# Altium integrated library NTCLE213E3104FXB0.IntLib: 1 symbol
Pins are listed as number, name and electrical type; pins without a type are passive.

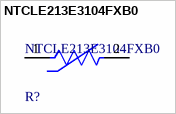
[diagram p0: symbol NTCLE213E3104FXB0]

## NTCLE213E3104FXB0
designator R?
THERM NTC 100KOHM 4190K BEAD; Resistance in Ohms @ 25°C: 100k; Supplier 1: Digi-Key; Supplier Part Number 1: BC2945-ND; ComponentLink1Description: Digikey Link; ComponentLink1URL: https://www.digikey.com/en/products/detail/vishay-beyschlag-draloric-bc-components/NTCLE213E3104FXB0/5138528; B25/85: 4190K; Mounting Type: Free Hanging; Package / Case: Bead
footprint FP-NXR_151B030-MFG (Free Hanging Bead Thermistor)
pins: 1, 2